# Altium integrated library TCM1-63AX_.IntLib: 1 symbol
Pins are listed as number, name and electrical type; pins without a type are passive.

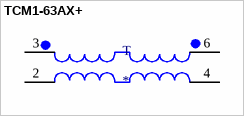
[diagram p0: symbol TCM1-63AX+]

## TCM1-63AX+
designator T
RF Transformer; MF: Mini-Circuits; MP: TCM1-63AX+; Value: *; Price: None; Availability: Unavailable; SnapEDA_Link: https://www.snapeda.com/parts/TCM1-63AX%2B/Mini-Circuits/view-part/1737112/?ref=snap; Package: None
footprint XFMR_TCM1-63AX+
pins: 2, 3, 4, 6